# Altium footprint library DMP3036SFV7.PcbLib: 1 footprints
Each footprint in its own frame and in the unit in brackets; x right, y up, seen from the top. Pads: shape width x height; smd on the part's side, far side on the other; paste and mask are expansions set on the pad; w line width, h text height; cw(c..) or ccw(c..) is an arc to the next point about the centre after c.
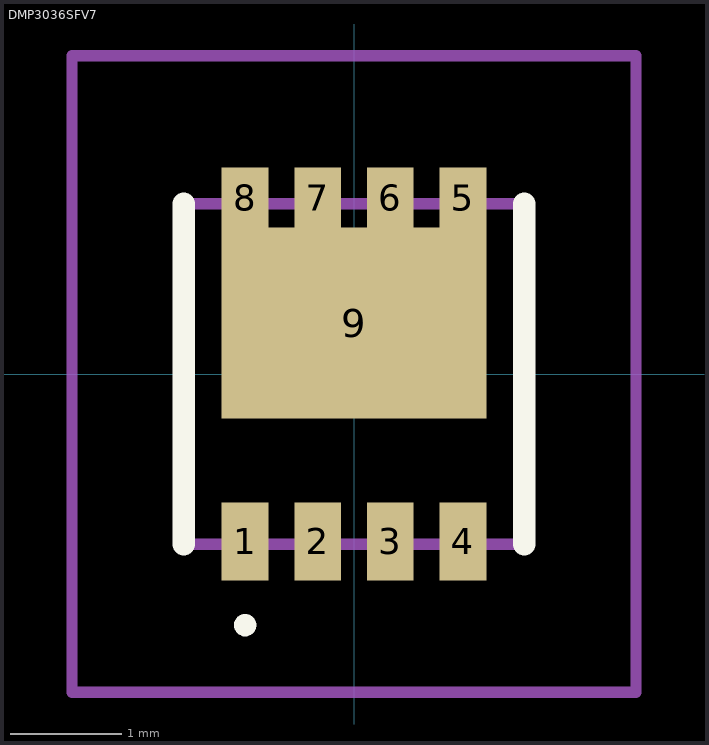
[diagram p0: the footprint, top view; thin cyan lines are the x and y axes]

## DMP3036SFV7 [mm]
pads (9):
  rect 0.42x0.7 smd: 1(-0.975,-1.5) 2(-0.325,-1.5) 3(0.325,-1.5) 4(0.975,-1.5)
  rect 0.42x0.54 smd: 5(0.975,1.58) 6(0.325,1.58) 7(-0.325,1.58) 8(-0.975,1.58)
  rect 2.37x1.71 smd: 9(0,0.455)
Top Overlay:
  lines w0.1: -0.975,-2.3 ccw(c-0.975,-2.25) -0.975,-2.2 ccw(c-0.975,-2.25) -0.975,-2.3
  lines w0.2: -1.525,-1.525 -1.525,1.525 ; 1.525,-1.525 1.525,1.525
Mechanical 15:
  lines w0.1: -1.525,-1.525 -1.525,1.525 1.525,1.525 1.525,-1.525 -1.525,-1.525
Mechanical 20:
  lines w0.1: -2.525,-2.85 -2.525,2.85 2.525,2.85 2.525,-2.85 -2.525,-2.85
3D body "DMP3013SFV-7.stp": height 0.75, standoff -0.05, extent -1.65,-1.65 1.65,1.65